# EAGLE library part LTC4316 (library graftel-internal-ic)
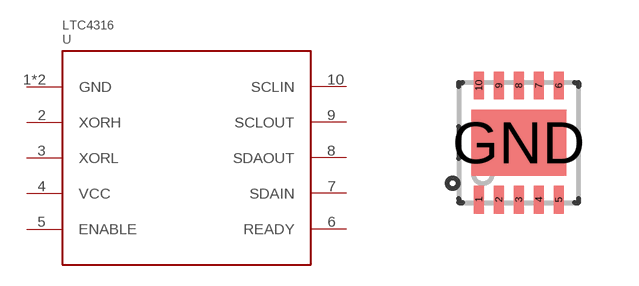
[diagram p2: symbol with the pads of DFN3X3; footprint DFN3X3]

Designator prefix -

## LTC4316  [DFN3X3]
1  GND
2  XORH
3  XORL
4  VCC
5  ENABLE
6  READY
7  SDAIN
8  SDAOUT
9  SCLOUT
10  SCLIN
GND  GND

## Footprint DFN3X3 (pad centres in mm)
smd 0.25 x 0.7: 1 -1,-1.425; 2 -0.5,-1.425; 3 0,-1.425; 4 0.5,-1.425; 5 1,-1.425; 6 1,1.425; 7 0.5,1.425; 8 0,1.425; 9 -0.5,1.425; 10 -1,1.425
smd 2.38 x 1.65: GND 0,0